# Altium schematic symbol library SN75240.SchLib: 1 symbol
Pins are listed as number, name and electrical type; pins without a type are passive.

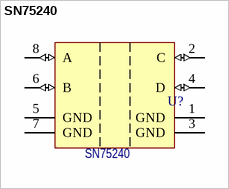
[diagram p0: symbol SN75240]

## SN75240
designator U?
ESD-защита; Потребление, Вт: 0; Назначение: ESD-защита; Наименование: SN75240
footprint SN75240
pins: 1 GND (power) "Ground 2. Ground reference for Isolator Side 2.", 2 C (io) "Logic Output C.", 3 GND (power) "Ground 2. Ground reference for Isolator Side 2.", 4 D (io) "Logic Output D.", 5 GND (power) "Ground 1. Ground reference for Isolator Side 1.", 6 B (io) "Logic Input D.", 7 GND (power) "Ground 1. Ground reference for Isolator Side 1.", 8 A (io) "Logic Input C."